# EAGLE library part RK09L124000Z (library passives)
RK09L1140 Potentiometer
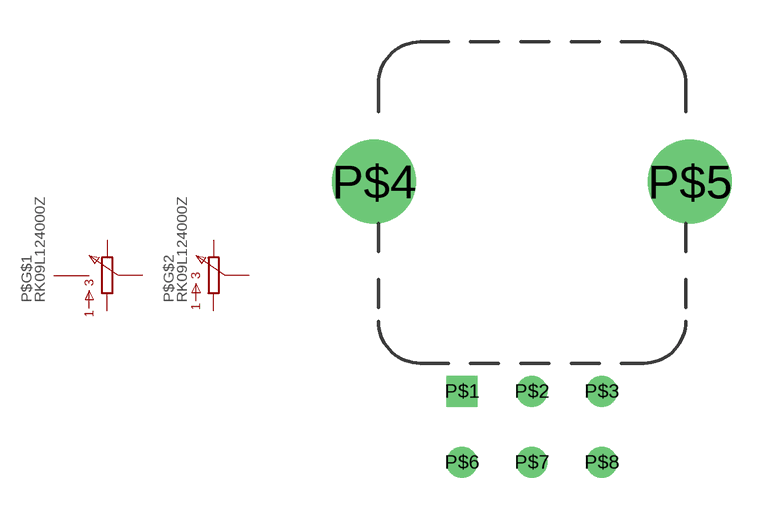
[diagram p1: symbol with the pads of RK09L124000Z; footprint RK09L124000Z]

Designator prefix P$; gates G$1=POT_GND G$2=POTENTIOMETER

## RK09L124000Z  [RK09L124000Z]
P$1  G$1:1  pas
P$2  G$1:2  pas
P$3  G$1:3  pas
P$4  G$1:P$1
P$5  G$1:P$1
P$6  G$2:1  pas
P$7  G$2:2  pas
P$8  G$2:3  pas

## Footprint RK09L124000Z (pad centres in mm)
drill 0.6 square: P$1 -2.5,0
drill 0.6: P$2 0,0; P$3 2.5,0; P$6 -2.5,-2.54; P$7 0,-2.54; P$8 2.5,-2.54
drill 2: P$4 -5.65,7.5; P$5 5.65,7.5